# Altium schematic symbol library SCHLibrary.SchLib: 42 symbols
Pins are listed as number, name and electrical type; pins without a type are passive.

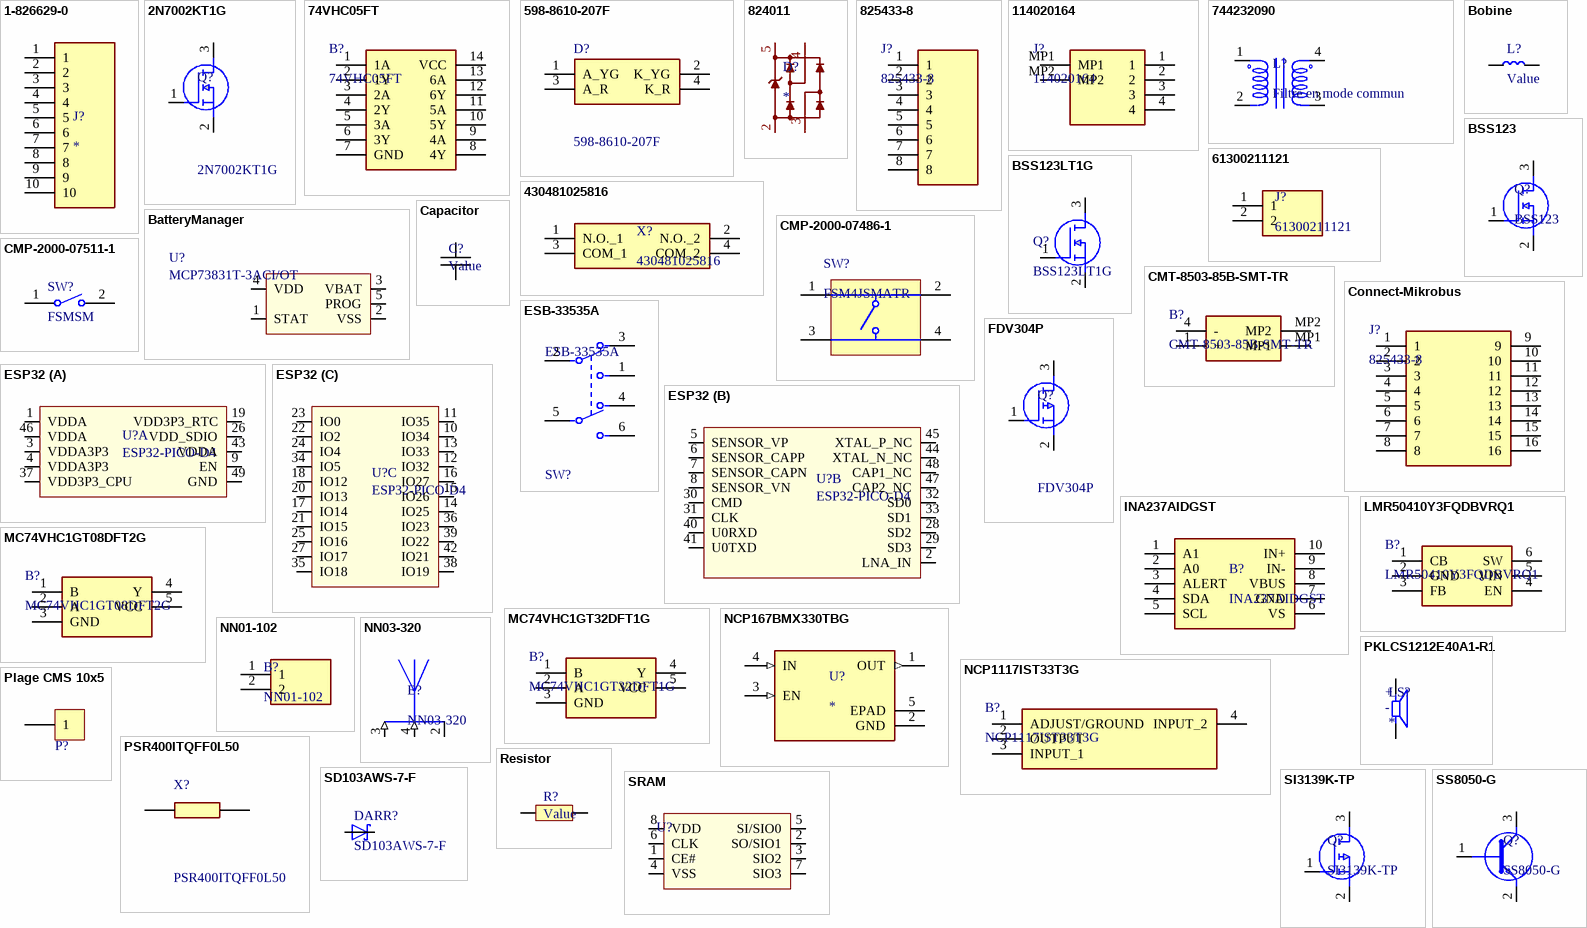
[diagram p0: symbols 1-826629-0 to SS8050-G]

## 1-826629-0
designator J?
Conn Unshrouded Header HDR 10 POS 2.54mm Solder ST Thru-Hole Carton
footprint TE_1-826629-0
pins: 1, 2, 3, 4, 5, 6, 7, 8, 9, 10

## 2N7002KT1G
designator Q?
MOSFET N-Ch 60V 380mA Small Signal SOT23 ON Semiconductor 2N7002KT1G N-channel MOSFET Transistor, 380 mA, 60 V, 3-Pin SOT-23; Manufacturer_Name: onsemi; Geometry.Height: 1.11mm; Manufacturer_Part_Number: 2N7002KT1G; Mouser Part Number: 863-2N7002KT1G; Mouser Price/Stock: https://www.mouser.co.uk/ProductDetail/onsemi/2N7002KT1G?qs=Jh7l0IbPjifUiTytu%252BGGDQ%3D%3D; Arrow Part Number: 2N7002KT1G; Arrow Price/Stock: https://www.arrow.com/en/products/2n7002kt1g/on-semiconductor?utm_currency=USD&region=nac; Datasheet Link: http://www.onsemi.com/pub/Collateral/2N7002K-D.PDF
footprint SOT96P237X111-3N
pins: 1 G, 2 S, 3 D

## 74VHC05FT
designator B?
Logic Gates CMOS LOGIC IC INVERTER; Manufacturer_Name: Toshiba; Manufacturer_Part_Number: 74VHC05FT; Mouser Part Number: 757-74VHC05FT
footprint SOP65P640X120-14N
pins: 1 1A, 2 1Y, 3 2A, 4 2Y, 5 3A, 6 3Y, 7 GND, 8 4Y, 9 4A, 10 5Y, 11 5A, 12 6Y, 13 6A, 14 VCC

## 598-8610-207F
designator D?
Standard LEDs - SMD Red/Green WC 80/50mcd 645/570nm; Manufacturer_Name: Dialight; Geometry.Height: 0.8mm; Manufacturer_Part_Number: 598-8610-207F; Mouser Part Number: 645-598-8610-207F; Mouser Price/Stock: https://www.mouser.co.uk/ProductDetail/Dialight/598-8610-207F?qs=7JStj%2FjQ2SFuCjosqwklHQ%3D%3D; Arrow Part Number: 598-8610-207F; Arrow Price/Stock: https://www.arrow.com/en/products/598-8610-207f/dialight?region=nac; Datasheet Link: https://media.digikey.com/pdf/Data%20Sheets/Dialight%20PDFs/598%20Series%201210%20Pkg%20Bi-Color.pdf
footprint 5988610207F
pins: 1 A_YG, 2 K_YG, 3 A_R, 4 K_R

## 824011
designator D?
TVS Diode Array WE-TVS, High Speed Series  - Low capazity - No leakage current - Low clamping voltage - high ESD voltage protection  -- USB 1.0 - 2.0
footprint 824011 (Suppresseurs ESD / diodes TVS WE-TVS High Speed 5uA 5VDC 2+1)
pins: 2 GND (power), 3 1, 4 2, 5 VDD (power)

## 825433-8
designator J?
Headers & Wire Housings 8P SINGLE ROW; Manufacturer_Name: TE Connectivity; Manufacturer_Part_Number: 825433-8; Mouser Part Number: 571-825433-8
footprint HDRV8W63P0X254_1X8_2032X254X970P
pins: 1, 2, 3, 4, 5, 6, 7, 8

## 114020164
designator J?
Seeed Studio Accessories Grove Female Header - SMD-4P-2.0mm-90D-20Pcs; Manufacturer_Name: Seeed Studio; Manufacturer_Part_Number: 114020164; Mouser Part Number: 713-114020164
footprint 114020164
pins: 1, 2, 3, 4, MP1, MP2

## 744232090
designator L?, comment Filtre en mode commun
Bobines / filtres en mode commun WE-CNSW 1206 370mA 90Ohm 100MHz AECQ200
footprint 744232090
pins: 1, 2, 3, 4

## 61300211121
designator J?
WURTH ELEKTRONIK - 61300211121 - HEADER, 2.54MM, PIN, THT, VERTICAL, 2WAY
footprint 61300211121 (Embases et logements de câbles WR-PHD 2.54mm 2Pin T HT Header)
pins: 1, 2

## 430481025816
designator X?
Black Tactile Tactile Switch, NO 50 mA 0.5mm Surface Mount
footprint 430481025816
pins: 1 N.O._1, 2 N.O._2, 3 COM_1, 4 COM_2

## BatteryManager
designator U?, comment MCP73831T-3ACI/OT
Gestion de batterie/pile Charge mgnt contr; Manufacturer 1: Microchip Technology; Supplier 1: Arrow Electronics; Supplier Part Number 1: MCP73831T-3ACI/OT; Manufacturer Part Number 1: MCP73831T-3ACI/OT
footprint SOT95P280X145-5N (SOT23, 5-Leads, Body 2,90x2,80mm, Pitch 0,95mm, IPC Medium Density)
pins: 1 STAT, 2 VSS, 3 VBAT, 4 VDD, 5 PROG

## Bobine
designator L?, comment Value
footprint LQPC1005X06N
pins: 1, 2

## BSS123
designator Q?
BSS123 N-Channel MOSFET, 170 mA, 100 V PowerTrench, 3-Pin SOT-23 ON Semiconductor
footprint BSS123
pins: 1 G, 2 S, 3 D

## BSS123LT1G
designator Q?
N-CHANNEL ENHANCEMENT MODE MOSFET; Manufacturer_Name: onsemi; Manufacturer_Part_Number: BSS123LT1G; Mouser Part Number: 863-BSS123LT1G
footprint SOT96P237X111-3N
pins: 1 G, 2 S, 3 D

## Capacitor
designator C?, comment Value
footprint CAPC1005X06N (Chip Capacitor, 2-Leads, Body 1,00x0,50mm, IPC Medium Density)
pins: 1, 2

## CMP-2000-07486-1
designator SW?, comment FSM4JSMATR
Micro Miniature Push Button Switch FSM JSM, 50 mA, -35 to 85 degC, 4-Pin SMD, RoHS, Tape and Reel; Manufacturer: TE Connectivity; Mechanical Life: 100000Cycles; Current Rating: 50mA; Actuator Material: Polyamide; Max Voltage Rating (DC): 12V; Capacitance: 0f; Illumination Type: Illuminated; Voltage Rating (DC): 24V; Case\/Package: SMD/SMT; Operating Force: 160gf; Contact Resistance: 100mOhm; Actuator Length: 0.055inch; Switch Travel: 0.25mm; Throw Configuration: SPST; Termination: GullWing; Contact Plating: Silver; Orientation: Straight; Mounting Technology: SurfaceMount; REACH SVHC: Unknown; Electrical Life: 100000Cycles; Package Reference: FSM4JSMATR; Max Operating Temperature: 85degC; Manufacturer URL: http://www.te.com/; Package Description: 4-Pin Surface Mount Device, Body 6 x 6 mm, Pitch 4.5 mm; Datasheet Version: Rev. V, 02/2015; Packaging: TapeandReel; Min Operating Temperature: -35degC; Mount: SurfaceMount; Contact Current Rating: 50mA; Contact Material: CopperAlloy; Package Quantity: 1200; Datasheet URL: http://www.te.com/commerce/DocumentDelivery/DDEController?Action=showdoc&DocId=Customer+Drawing%7F2-1437565-7%7FV%7Fpdf%7FEnglish%7FENG_CD_2-1437565-7_V.pdf%7F4-1437565-2; RoHSCompliant: true
footprint TECO-FSM4JSMATR_V (SMD, 4-Leads, Body 6x6mm, Pitch 4.5mm)
pins: 1, 2, 3, 4

## CMP-2000-07511-1
designator SW?, comment FSMSM
FSMSM Push Button Switch, 50 mA, -35 to 85 degC, 2-Pin SMD, RoHS, Bulk; Manufacturer: TE Connectivity; Actuator Length: 1.07mm; Electrical Life: 20000Cycles; Actuator Material: Polyamide; Current Rating: 50mA; Illumination Type: Illuminated; Voltage Rating (DC): 24V; Contact Resistance: 100mOhm; Case\/Package: SMD/SMT; Operating Force: 180gf; Switch Travel: 0.25mm; Max Voltage Rating (DC): 12V; Throw Configuration: SPST; Packaging: LoosePiece; Max Operating Temperature: 85degC; ELV: Compliant; Package Description: 2-Pin Surface Mount Device, Body 6 x 3.5 mm, Pitch 9.19 mm; RoHSCompliant: true; Manufacturer URL: http://www.te.com/; Contact Plating: Silver; Contact Material: Brass; Mounting Technology: SurfaceMount; Contact Current Rating: 50mA; Datasheet Version: Rev. C2, 08/2014; Datasheet URL: http://www.te.com/commerce/DocumentDelivery/DDEController?Action=showdoc&DocId=Customer+Drawing%7F1437566-3%7FC2%7Fpdf%7FEnglish%7FENG_CD_1437566-3_C2_1437566_3_1_c.dwg.pdf%7F1437566-3; Mechanical Life: 20000Cycles; Package Reference: FSMSM; REACH SVHC: Unknown; Orientation: Straight; Min Operating Temperature: -35degC; Lead Free: LeadFree; Termination: GullWing; Package Quantity: 1000; Mount: SurfaceMount
footprint TECO-FSMSM-2_V (SMD, 2-Leads, Body 6x3.5mm, Pitch 9.19mm)
pins: 1, 2

## CMT-8503-85B-SMT-TR
designator B?
Speakers & Transducers buzzer, 8.5 mm, 3 mm deep, M, 3.6 V, 85 dB, Surface Mount (SMT), Audio Transducer; Manufacturer_Name: Same Sky; Manufacturer_Part_Number: CMT-8503-85B-SMT-TR; Mouser Part Number: 490-CMT-850385BSMTTR
footprint CMT850385BSMTTR
pins: 1 +, 4 -, MP1, MP2

## Connect-Mikrobus
designator J?, comment 825433-8
Headers & Wire Housings 8P double for connection mikrobus; Manufacturer_Name: TE Connectivity; Manufacturer_Part_Number: 825433-8; Mouser Part Number: 571-825433-8
pins: 1, 2, 3, 4, 5, 6, 7, 8, 9, 10, 11, 12, 13, 14, 15, 16

## ESB-33535A
designator SW?
SWITCH PUSH DPDT 0.2A 14V; Radiation Hardening: No; Packaging: Tape and Reel; Termination: Solder; Throw Configuration: DPDT; Max Voltage Rating (DC): 14V; Mount: Surface Mount; Case/Package: SMD/SMT
footprint ESB-33535A-3
pins: 1 1 N.O., 2 1 C, 3 1 N.C., 4 2 N.C., 5 2 C, 6 2 N.O.

## ESP32
designator U?, comment ESP32-PICO-D4
Système RF sur puce - SoC SIP module ESP32 with 4MByte Flash, Dual Core MCU, Wi-Fi & Bluetooth Combo, LGA48-pin, 7*7mm; Manufacturer 1: Espressif Systems; Supplier 1: Digi-Key; Supplier Part Number 1: 1904-1029-1-ND; Manufacturer Part Number 1: ESP32-PICO-D4
footprint PQFN50P700X700X104_HS-49N (PQFN, 48-Leads, Body 7,00x7,00mm, Pitch 0,50mm, Thermal Pad 5,40x5,40mm, IPC Medium Density)
part A pins: 1 VDDA, 3 VDDA3P3, 4 VDDA3P3, 9 EN, 19 VDD3P3_RTC, 26 VDD_SDIO, 37 VDD3P3_CPU, 43 VDDA, 46 VDDA, 49 GND
part B pins: 2 LNA_IN, 5 SENSOR_VP, 6 SENSOR_CAPP, 7 SENSOR_CAPN, 8 SENSOR_VN, 28 SD2, 29 SD3, 30 CMD, 31 CLK, 32 SD0, 33 SD1, 40 U0RXD, 41 U0TXD, 44 XTAL_N_NC, 45 XTAL_P_NC, 47 CAP2_NC, 48 CAP1_NC
part C pins: 10 IO34, 11 IO35, 12 IO32, 13 IO33, 14 IO25, 15 IO26, 16 IO27, 17 IO14, 18 IO12, 20 IO13, 21 IO15, 22 IO2, 23 IO0, 24 IO4, 25 IO16, 27 IO17, 34 IO5, 35 IO18, 36 IO23, 38 IO19, 39 IO22, 42 IO21

## FDV304P
designator Q?
ON SEMICONDUCTOR - FDV304P - Power MOSFET, P Channel, 25 V, 460 mA, 1.22 ohm, SOT-23, Surface Mount; Manufacturer_Name: onsemi; Geometry.Height: 1.12mm; Manufacturer_Part_Number: FDV304P; Mouser Part Number: 512-FDV304P; Mouser Price/Stock: https://www.mouser.co.uk/ProductDetail/onsemi-Fairchild/FDV304P?qs=FOlmdCx%252BAA1BAlCQZu888w%3D%3D; Arrow Part Number: FDV304P; Arrow Price/Stock: https://www.arrow.com/en/products/fdv304p/on-semiconductor?utm_currency=USD&region=europe; Datasheet Link: https://componentsearchengine.com/Datasheets/2/FDV304P.pdf
footprint SOT95P251X112-3N
pins: 1 G, 2 S, 3 D

## INA237AIDGST
designator B?
Current Sense Amplifiers 85-V, 16-bit, I2C output current/voltage/power monitor with alert 10-VSSOP -40 to 125; Manufacturer_Name: Texas Instruments; Manufacturer_Part_Number: INA237AIDGST; Mouser Part Number: 595-INA237AIDGST
footprint SOP50P490X110-10N
pins: 1 A1, 2 A0, 3 ALERT, 4 SDA, 5 SCL, 6 VS, 7 GND, 8 VBUS, 9 IN-, 10 IN+

## LMR50410Y3FQDBVRQ1
designator B?
Régulateurs de tension de commutation Automotive qualified SIMPLE SWITCHER 4-V to 36-V, 1-A synchronous step-down converter 6-SOT-23 -40 to 150; Manufacturer_Name: Texas Instruments; Manufacturer_Part_Number: LMR50410Y3FQDBVRQ1; Mouser Part Number: 595-R50410Y3FQDBVRQ1
footprint SOT95P280X145-6N
pins: 1 CB, 2 GND, 3 FB, 4 EN, 5 VIN, 6 SW

## MC74VHC1GT08DFT2G
designator B?
Single 2-Input AND Gate, TTL Level; Manufacturer_Name: onsemi; Manufacturer_Part_Number: MC74VHC1GT08DFT2G; Parameter 3: *
footprint SOT65P210X110-5N
pins: 1 B, 2 A, 3 GND, 4 Y, 5 VCC

## MC74VHC1GT32DFT1G
designator B?
Single 2-Input OR Gate, TTL Level; Manufacturer_Name: onsemi; Manufacturer_Part_Number: MC74VHC1GT32DFT1G; Mouser Part Number: 863-C74VHC1GT32DFT1G
footprint SOT65P210X110-5N
pins: 1 B, 2 A, 3 GND, 4 Y, 5 VCC

## NCP167BMX330TBG
designator U?
Régulateurs de tension LDO LDO 700 MA ULTRA-LOW NOISE 3.3V
footprint NCP167BMX330TBG (Régulateurs de tension LDO LDO 700 MA ULTRA-LOW NOISE 3.3V)
pins: 1 OUT (out), 2 GND (power), 3 EN (in), 4 IN (in), 5 EPAD (power)

## NCP1117IST33T3G
designator B?
Linear Voltage Regulator IC Positive Fixed 1 Output 1A SOT-223; Parameter 1: onsemi; Parameter 3: 863-NCP1117IST33T3G; Parameter 2: NCP1117IST33T3G
footprint SOT230P700X180-4N
pins: 1 ADJUST/GROUND, 2 OUTPUT, 3 INPUT_1, 4 INPUT_2

## NN01-102
designator B?
Antennes Compact Reach Xtend 2.4 GHz
footprint NN01-102
pins: 1, 2

## NN03-320
designator E?
Dual port antenna booster for GNSS, Bluetooth, 5G and UWB (1561 - 1606MHz, 2400 - 2500MHz, 3400 - 3800MHz, 3100 - 4800MHz and 6000 - 10600 MHz), signal booster; Manufacturer_Name: Ignion; Manufacturer_Part_Number: NN03-320; Mouser Part Number: 128-NN03-320
footprint XCVR_NN03-320
pins: 2 GROUND (power), 3 FEED_BLUETOOTH (in), 4 FEED_GNSS (in)

## PKLCS1212E40A1-R1
designator LS?
Buzzers Transducer, Externally Driven Piezo 1.5V 2kHz 70dB @ 1.5V, 10cm Surface Mount Solder Pads; MF: Murata Electronics; MP: PKLCS1212E40A1-R1; Value: *; Package: None; Availability: Unavailable; Price: None
footprint SPKR_PKLCS1212E40A1-R1
pins: N, P
text: +; -

## Plage CMS 10x5
designator P?  (value not drawn)  (no BOM)
Plage de report CMS 10x5mm; PN: L30; Value: Plage CMS 10x5; Footprint_statut: ok
footprint Plage CMS 10x5
pins: 1

## PSR400ITQFF0L50
designator X?
ROHM - PSR400ITQFF0L50 - SMD Current Sense Resistor, 500 ohm, PSR Series, 3921 [1052 Metric], 4 W, +/- 1%, Metal Strip; Manufacturer_Name: ROHM Semiconductor; Geometry.Height: 2mm; Manufacturer_Part_Number: PSR400ITQFF0L50; Mouser Part Number: 755-PSR400ITQFF0L50; Mouser Price/Stock: https://www.mouser.co.uk/ProductDetail/ROHM-Semiconductor/PSR400ITQFF0L50?qs=493kPxzlxfLaT1w5Mo%252BtHg%3D%3D; Arrow Part Number: *; Arrow Price/Stock: *; Datasheet Link: https://componentsearchengine.com/Datasheets/2/PSR400ITQFF0L50.pdf
footprint RESC10052X200N
pins: 1, 2

## Resistor
designator R?, comment Value
footprint RESC1005X06N (Chip Resistor, 2-Leads, Body 1,00x0,50mm, IPC Medium Density)
pins: 1, 2

## SD103AWS-7-F
designator DARR?
Diode Array 3 Independent Schottky 40V 175mA Surface Mount 6-TSSOP, SC-88, SOT-363
footprint SD103AWS-7-F
pins: 1 C, 2 A

## SI3139K-TP
designator Q?
MOSFET P-Channel MOSFET
footprint SI3139K-TP (MOSFET P-Channel MOSFET)
pins: 1 G, 2 S, 3 D

## SRAM
designator U?, comment IS66WVS1M8BLL-104NLI  (value not drawn)
SRAM 8Mb, SerialRAM, 2.7V-3.6V, 104MHz, 8 pin SOIC 150 mil, RoHS; Manufacturer 1: ISSI; Supplier 1: Digi-Key; Supplier Part Number 1: 706-IS66WVS1M8BLL-104NLI-ND; Manufactuer Part Number 1: IS66WVS1M8BLL-104NLI
footprint SOIC127P600X175-8N (SOIC, 8-Leads, Body 4,90x3,90mm, Pitch 1,27mm, IPC Medium Density)
pins: 1 CE#, 2 SO/SIO1, 3 SIO2, 4 VSS, 5 SI/SIO0, 6 CLK, 7 SIO3, 8 VDD

## SS8050-G
designator Q?
Bipolar Transistors - BJT NPN TRANSISTOR 1.5A 40V
footprint SS8050-G
pins: 1 B, 2 E, 3 C

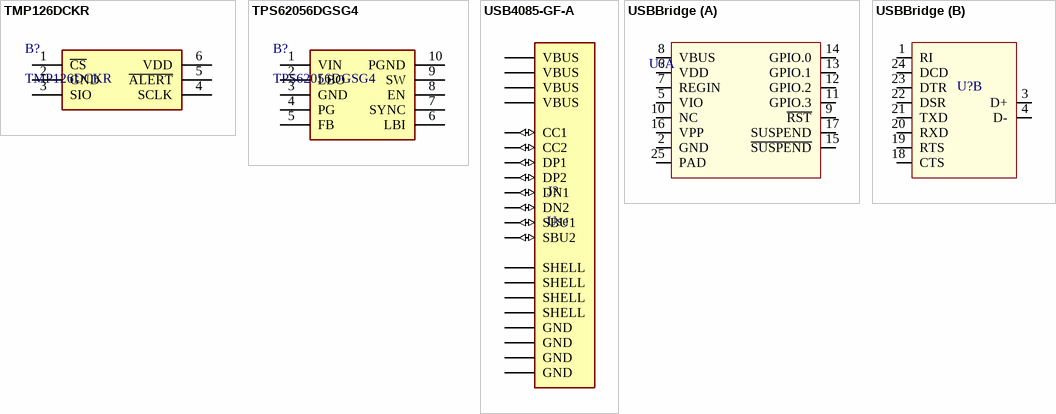
[diagram p1: symbols TMP126DCKR to USBBridge]

## TMP126DCKR
designator B?
Board Mount Temperature Sensors +/-0.25 C SPI temperature sensor with 175 C operation, CRC and slew-rate alert; Manufacturer_Name: Texas Instruments; Manufacturer_Part_Number: TMP126DCKR; Mouser Part Number: 595-TMP126DCKR
footprint SOT65P210X110-6N
pins: 1 ~{CS}, 2 GND, 3 SIO, 4 SCLK, 5 ~{ALERT}, 6 VDD

## TPS62056DGSG4
designator B?
TEXAS INSTRUMENTS - TPS62056DGSG4 - Synchronous Buck (Step Down) Switching Regulator, Fixed, 2.7V-10Vin, 3.3V/0.8A out, 850kHz, VSSOP-10; Manufacturer_Name: Texas Instruments; Manufacturer_Part_Number: TPS62056DGSG4; Mouser Part Number: 595-TPS62056DGSG4
footprint SOP50P490X110-10N
pins: 1 VIN, 2 LBO, 3 GND, 4 PG, 5 FB, 6 LBI, 7 SYNC, 8 EN, 9 SW, 10 PGND

## USB4085-GF-A
designator J?, comment Use
Connecteurs USB USB Type C, 2.0, Rec, TH , G/F, RA , Top Mnt, T & R
footprint USB4085-GF-A
pins: A1 GND (power), A4 VBUS (power), A5 CC1 (io), A6 DP1 (io), A7 DN1 (io), A8 SBU1 (io), A9 VBUS (power), A12 GND (power), B1 GND (power), B4 VBUS (power), B5 CC2 (io), B6 DP2 (io), B7 DN2 (io), B8 SBU2 (io), B9 VBUS (power), B12 GND (power), S1 SHELL, S2 SHELL, S3 SHELL, S4 SHELL

## USBBridge
designator U?, comment CP2104-F03-GM  (value not drawn)
USB Bridge, USB to UART USB 2.0 UART Interface 24-QFN (4x4); Manufacturer 1: Silicon Labs; Supplier 1: Arrow Electronics; Supplier Part Number 1: CP2104-F03-GM; Manufacturer Part Number 1: CP2104-F03-GM
footprint PQFN50P400X400X80_HS-25N (PQFN, 24-Leads, Body 4,00x4,00mm, Pitch 0,50mm, Thermal Pad 2,65x2,65mm, IPC Medium Density)
part A pins: 2 GND, 5 VIO, 6 VDD, 7 REGIN, 8 VBUS, 9 ~{RST}, 10 NC, 11 GPIO.3, 12 GPIO.2, 13 GPIO.1, 14 GPIO.0, 15 ~{SUSPEND}, 16 VPP, 17 SUSPEND, 25 PAD
part B pins: 1 RI, 3 D+, 4 D-, 18 CTS, 19 RTS, 20 RXD, 21 TXD, 22 DSR, 23 DTR, 24 DCD